# Altium footprint library diodes.PcbLib: 2 footprints
Each footprint in its own frame and in the unit in brackets; x right, y up, seen from the top. Pads: shape width x height; smd on the part's side, far side on the other; paste and mask are expansions set on the pad; w line width, h text height; cw(c..) or ccw(c..) is an arc to the next point about the centre after c.
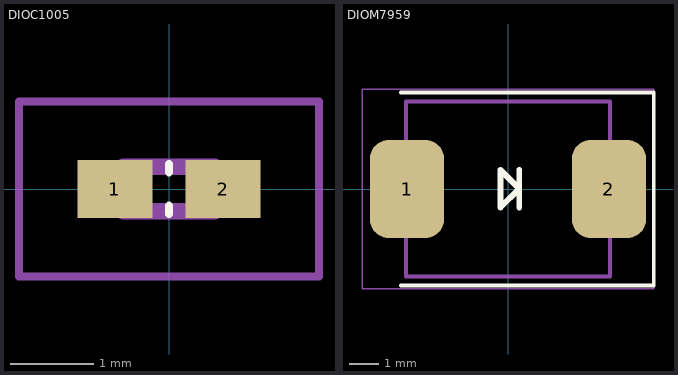
[diagram p0: the footprints below, top view; thin cyan lines are the x and y axes]

## DIOC1005 [mm]
pads (2):
  rect 0.9x0.7 smd paste-0.115: 1(-0.65,0) 2(0.65,0)
Top Overlay:
  lines w0.1: 0,-0.3 0,-0.2 ; 0,0.2 0,0.3
Mechanical 13:
  lines w0.2: -0.55,-0.265 -0.55,0.265 0.55,0.265 0.55,-0.265 -0.55,-0.265
Mechanical 15:
  lines w0.1: -1.8,-1.05 -1.8,1.05 1.8,1.05 1.8,-1.05 -1.8,-1.05
3D body "0402ESDA-AEC1.stp": height 0.36, standoff 0, extent -0.55,-0.265 0.55,0.265

## DIOM7959 [mm]
pads (2):
  rrect50% 2.5x3.3 smd: 1(-3.4,0) 2(3.4,0)
Top Overlay:
  lines w0.127: -3.6,-3.25 4.91,-3.25 4.91,3.25 -3.6,3.25
  lines w0.2: 0.379,-0.621 0.379,0.649 ; -0.256,-0.621 -0.256,0.649 0.379,0.014 -0.256,-0.621
Mechanical 13:
  lines w0.127: -3.437,-2.95 3.437,-2.95 3.437,2.95 -3.437,2.95 -3.437,-2.95
Mechanical 15:
  lines w0.05: -4.9,-3.35 -4.9,3.35 4.9,3.35 4.9,-3.35 -4.9,-3.35
3D body "step_temp.STEP": height 2.19, standoff -0.01, extent -3.963,-2.9 3.937,2.9